# Altium footprint library TB6612FNG.PcbLib: 1 footprints
Each footprint in its own frame and in the unit in brackets; x right, y up, seen from the top. Pads: shape width x height; smd on the part's side, far side on the other; paste and mask are expansions set on the pad; w line width, h text height; cw(c..) or ccw(c..) is an arc to the next point about the centre after c.
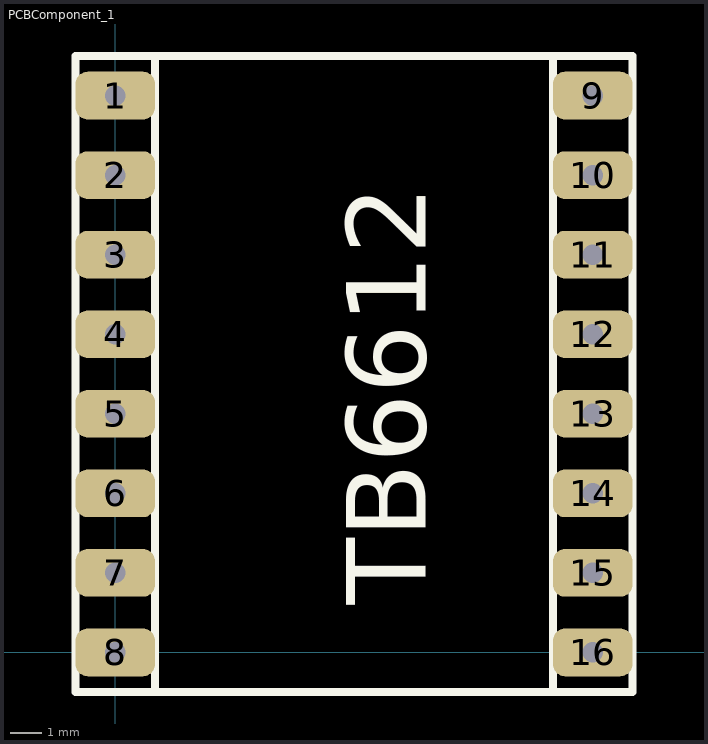
[diagram p0: the footprint, top view; thin cyan lines are the x and y axes]

## PCBComponent_1 [mil]
pads (16):
  rrect50% 100x60 hole 25.59: 1(0,700) 2(0,600) 3(0,500) 4(0,400) 5(0,300) 6(0,200) 7(0,100) 8(0,0) 9(600,700) 10(600,600) 11(600,500) 12(600,400) 13(600,300) 14(600,200) 15(600,100) 16(600,0)
Top Overlay:
  lines w10: 50,-50 50,750 ; 550,-50 550,750 ; -50,-50 650,-50 650,750 -50,750 -50,-50
  text "TB6612" at 390,60 h100
3D body: height 100, standoff 0, extent 550,-50 650,750
3D body: height 100, standoff 0, extent -50,-50 50,750
3D body "TB6612FNG Motor Driver.STEP": height 239.5, standoff 99, extent -111.49,-62.99 711.51,763